# EAGLE library part PIN_2MM_6POL (library SureDSP)
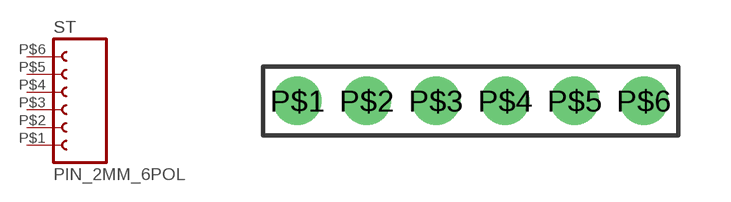
[diagram p0: symbol with the pads of PIN_2MM_6POL; footprint PIN_2MM_6POL]

Designator prefix ST

## PIN_2MM_6POL  [PIN_2MM_6POL]
P$1  9  pas
P$2  11  pas
P$3  13  pas
P$4  15  pas
P$5  17  pas
P$6  19  pas

## Footprint PIN_2MM_6POL (pad centres in mm)
drill 0.85 pad 1.4: P$1 0,0; P$2 2,0; P$3 4,0; P$4 6,0; P$5 8,0; P$6 10,0